# Altium schematic symbol library CN_8P.SchLib: 1 symbol
Pins are listed as number, name and electrical type; pins without a type are passive.

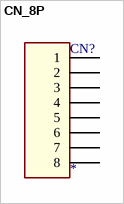
[diagram p0: symbol CN_8P]

## CN_8P
designator CN?
pins: 1, 2, 3, 4, 5, 6, 7, 8